# Altium footprint library 5A_BRULA,Tomas.PcbLib: 97 footprints (part 2 of 7)
Each footprint in its own frame and in the unit in brackets; x right, y up, seen from the top. Pads: shape width x height; smd on the part's side, far side on the other; paste and mask are expansions set on the pad; w line width, h text height; cw(c..) or ccw(c..) is an arc to the next point about the centre after c.
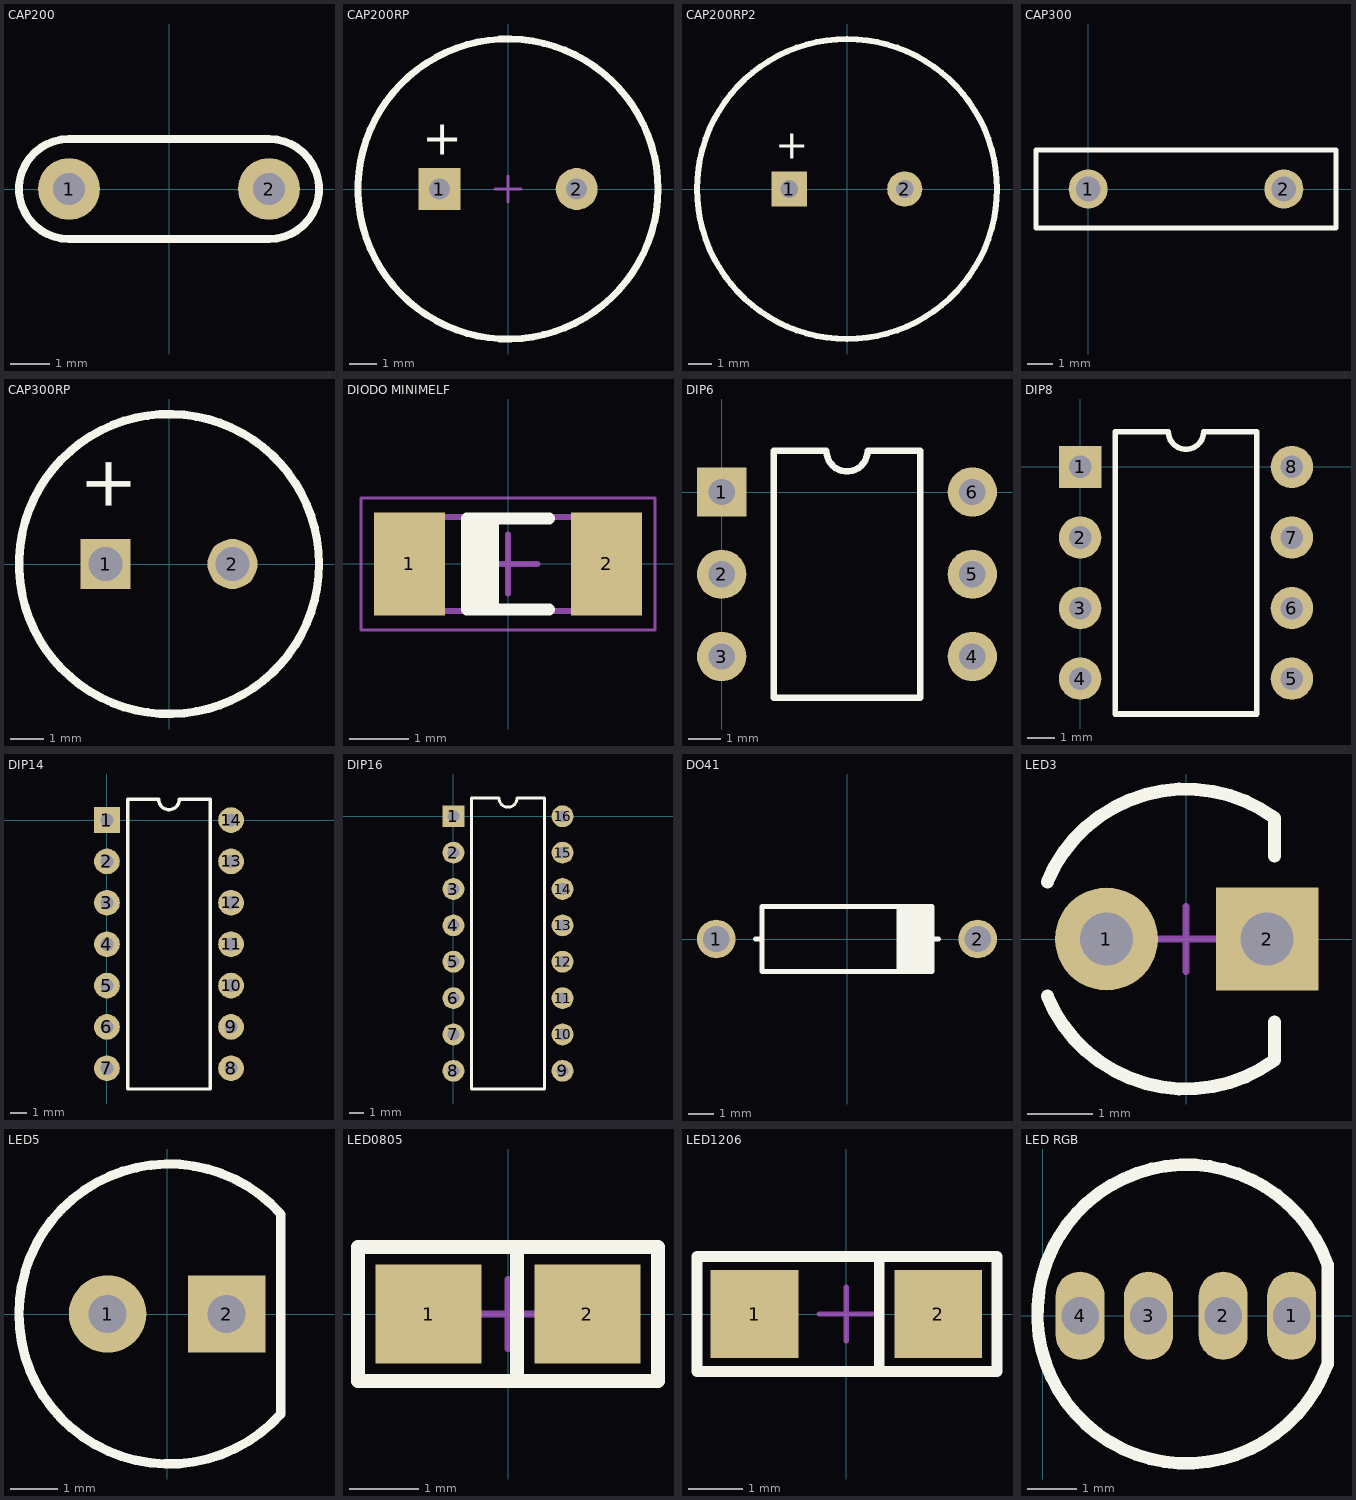
[diagram p1: the footprints below, top view; thin cyan lines are the x and y axes]

## CAP200 [mil]
pads (2):
  round 62 hole 32: 1(-100,0) 2(100,0)
Top Overlay:
  lines w7.87: -100,-50 cw(c-100,0) -100,50 100,50 cw(c100,0) 100,-50 -100,-50
3D body "CAP200.step": height 245.67, standoff -54.33, extent -110,-46 110,44

## CAP200RP [mil] "Body Diameter 10.33mm"
pads (2):
  rect 60x60 hole 30: 1(-98.43,0)
  round 60 hole 30: 2(98.43,0)
Top Overlay:
  circle w10: c0,0 r215
  text "+" at -123,49 h50
Mechanical 15:
  lines w3.94: -18.7,0 18.7,0 ; 0,-18.7 0,18.7
3D body: height 787.4, standoff 0, extent -204.54,-204 203.84,205.19
3D body: height 62.99, standoff -78.74, extent -110.14,-11.76 -86.61,11.81
3D body: height 62.99, standoff -78.74, extent 86.71,-11.76 110.24,11.81

## CAP200RP2 [mil] "Body Diameter 12.5mm"
pads (2):
  rect 60x60 hole 30: 1(-98.43,0)
  round 60 hole 30: 2(98.43,0)
Top Overlay:
  circle w10: c0,0 r255.91
  text "+" at -122,52 h50
3D body: height 62.99, standoff -78.74, extent -110.14,-11.76 -86.61,11.81
3D body: height 787.4, standoff 0, extent -246.06,-245.09 244.12,246.06
3D body: height 62.99, standoff -78.74, extent 86.71,-11.76 110.24,11.81

## CAP300 [mil]
pads (2):
  round 60 hole 38: 1(0,0) 2(300,0)
Top Overlay:
  lines w7.87: -80,-60 380,-60 380,60 -80,60 -80,-60

## CAP300RP [mm]
pads (2):
  rect 1.5x1.5 hole 1.016: 1(-1.905,0)
  round 1.5 hole 1.016: 2(1.905,0)
Top Overlay:
  circle w0.254: c0,0 r4.5
  text "+" at -1.143,1.524 h1.52

## DIODO MINIMELF [mm] "DIODO SMD"
height 1.6
pads (2):
  rect 1.2x1.75 smd: 1(-1.675,0) 2(1.675,0)
Top Overlay:
  rectangle: -0.7,-0.775 -0.15,0.775
  lines w0.2: 0.7,-0.775 -0.7,-0.775 -0.7,0.775 0.7,0.775
Mechanical 13:
  lines w0.1: -1.85,-0.8 -1.85,0.8 1.85,0.8 1.85,-0.8 -1.85,-0.8
Mechanical 15:
  lines w0.05: -2.5,-1.125 -2.5,1.125 2.5,1.125 2.5,-1.125 -2.5,-1.125
  lines w0.1: -0.5,0 0.5,0 ; 0,-0.5 0,0.5
3D body: height 1.6, standoff 0, extent -1.85,-0.8 -1.38,0.8
3D body: height 1.58, standoff 0.04, extent -0.78,-0.771 -0.18,0.771
3D body: height 1.59, standoff 0.04, extent -1.38,-0.77 1.38,0.77
3D body: height 1.6, standoff 0, extent 1.38,-0.8 1.85,0.8

## DIP6 [mm]
pads (6):
  rect 1.5x1.5 hole 0.8: 1(0,0)
  round 1.5 hole 0.8: 2(0,-2.5) 3(0,-5) 4(7.62,-5) 5(7.62,-2.5) 6(7.62,0)
Top Overlay:
  lines w0.2: 1.585,-6.25 1.585,1.25 3.185,1.25 ccw(c3.81,1.25) 4.435,1.25 6.035,1.25 6.035,-6.25 1.585,-6.25

## DIP8 [mil]
pads (8):
  rect 60x60 hole 32: 1(0,0)
  round 60 hole 32: 2(0,-100) 3(0,-200) 4(0,-300) 5(300,-300) 6(300,-200) 7(300,-100) 8(300,0)
Top Overlay:
  lines w7.87: 50,-350 250,-350 250,50 175,50 cw(c150,50) 125,50 50,50 50,-350
3D body "DIP8.step": height 177.17, standoff -137.8, extent -2.54,-362.6 303,62.6

## DIP14 [mil]
pads (14):
  rect 62x62 hole 32: 1(0,0)
  round 62 hole 32: 2(0,-100) 3(0,-200) 4(0,-300) 5(0,-400) 6(0,-500) 7(0,-600) 8(300,-600) 9(300,-500) 10(300,-400) 11(300,-300) 12(300,-200) 13(300,-100) 14(300,0)
Top Overlay:
  lines w8: 50,-650 250,-650 250,50 175,50 cw(c150,50) 125,50 50,50 50,-650
3D body "SW3DPS-DIP14-DEFAULT.step": height 165, standoff -105, extent -5,-675 305,75

## DIP16 [mil]
pads (16):
  rect 60x60 hole 32: 1(0,0)
  round 60 hole 32: 2(0,-100) 3(0,-200) 4(0,-300) 5(0,-400) 6(0,-500) 7(0,-600) 8(0,-700) 9(300,-700) 10(300,-600) 11(300,-500) 12(300,-400) 13(300,-300) 14(300,-200) 15(300,-100) 16(300,0)
Top Overlay:
  lines w7.87: 50,-750 250,-750 250,50 175,50 cw(c150,50) 125,50 50,50 50,-750
3D body "DIP16.step": height 78.03, standoff -220, extent -3,-743.7 306.84,43.7

## DO41 [mm]
pads (2):
  round 1.5 hole 1.016: 1(-5.08,0) 2(5.08,0)
Top Overlay:
  rectangle: 2.032,-1.27 3.302,1.27
  lines w0.2: -3.556,0 -3.302,0 ; 2.032,-1.27 2.032,1.27 ; 3.302,0 3.556,0 ; -3.302,-1.27 3.302,-1.27 3.302,1.27 -3.302,1.27 -3.302,-1.27
3D body "DO41.step": height 2.03, standoff -3.06, extent -5.461,-1.194 5.461,1.372

## LED3 [mil]
pads (2):
  round 62 hole 32: 1(-48,0)
  rect 62x62 hole 32: 2(49,0)
Top Overlay:
  lines w7.87: -83.73,-34.48 ccw(c0,0) 53.55,-73.02 53.55,-50 ; -83.73,34.48 cw(c0,0) 53.55,73.02 53.55,50
Mechanical 15:
  lines w3.94: -19.69,0 19.68,0 ; 0,-19.68 0,19.69
3D body "LED3.STEP": height 19.18, standoff -295.78, extent -64.96,-64 64.96,65.48

## LED5 [mil]
pads (2):
  round 65 hole 32: 1(-50,0)
  rect 65x65 hole 32: 2(50,0)
Top Overlay:
  lines w7.87: 95.26,-84.23 cw(c1.57,0) 95.56,83.89 95.56,-84.23
3D body "SW3dPS-LEDd5R.STEP": height 484.75, standoff -97.93, extent -116.69,-116.99 96.69,120

## LED0805 [mil] "LED SMD 0805"
height 27.56
pads (2):
  rect 60x56 smd: 1(-45,0) 2(45,0)
Top Overlay:
  lines w7.87: 5,-38 5,38 ; -85,-38 -85,38 85,38 85,-38 -85,-38
Mechanical 15:
  lines w3.94: -19.69,0 19.68,0 ; 0,-19.68 0,19.68
3D body "LED0805.step": height 33.45, standoff 0.23, extent -40.6,-17.68 40.6,18

## LED1206 [mil]
height 27.56
pads (2):
  rect 64x64 smd: 1(-67,0) 2(67,0)
Top Overlay:
  lines w7.87: 24,-42 24,42 ; -109,-42 -109,42 110,42 110,-42 -109,-42
Mechanical 15:
  lines w3.94: -19.68,0 19.69,0 ; 0,-19.68 0,19.69
3D body "LED1206R.STEP": height 43.81, standoff -15.9, extent -61,-31 65,32

## LED RGB [mm] "LED RGB THT"
pads (4):
  oval 1x1.8 hole 0.762: 1(5.08,0) 2(3.683,0) 3(2.159,0) 4(0.762,0)
Top Overlay:
  lines w0.254: 5.804,-1.002 cw(c2.937,0.035) 5.816,1.036 5.816,-0.989